# Altium schematic symbol library SR420561N.Schlib: 1 symbol
Pins are listed as number, name and electrical type; pins without a type are passive.

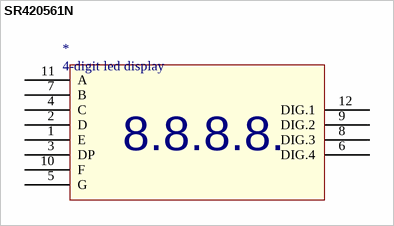
[diagram p0: symbol SR420561N]

## SR420561N
designator *, comment 4-digit led display
4 0.56''(14.22mm) Cathode(Negative electrode) Red 633nm Through Hole Led Segment Display RoHS; ComponentLink1Description: LCSC - ARKLED(Wuxi ARK Tech Elec) SR420561N; ComponentLink1URL: https://lcsc.com/product-detail/Led-Segment-Display_ARKLED-Wuxi-ARK-Tech-Elec-SR420561N_C109200.html; LCSC Part #: C109200
footprint DIP12x2_LED_DISP
pins: 1 E, 2 D, 3 DP, 4 C, 5 G, 6 DIG.4, 7 B, 8 DIG.3, 9 DIG.2, 10 F, 11 A, 12 DIG.1
text: 8.8.8.8.